# Altium footprint library SD87340-28 TWO SIDE.PcbLib: 1 footprints
Each footprint in its own frame and in the unit in brackets; x right, y up, seen from the top. Pads: shape width x height; smd on the part's side, far side on the other; paste and mask are expansions set on the pad; w line width, h text height; cw(c..) or ccw(c..) is an arc to the next point about the centre after c.
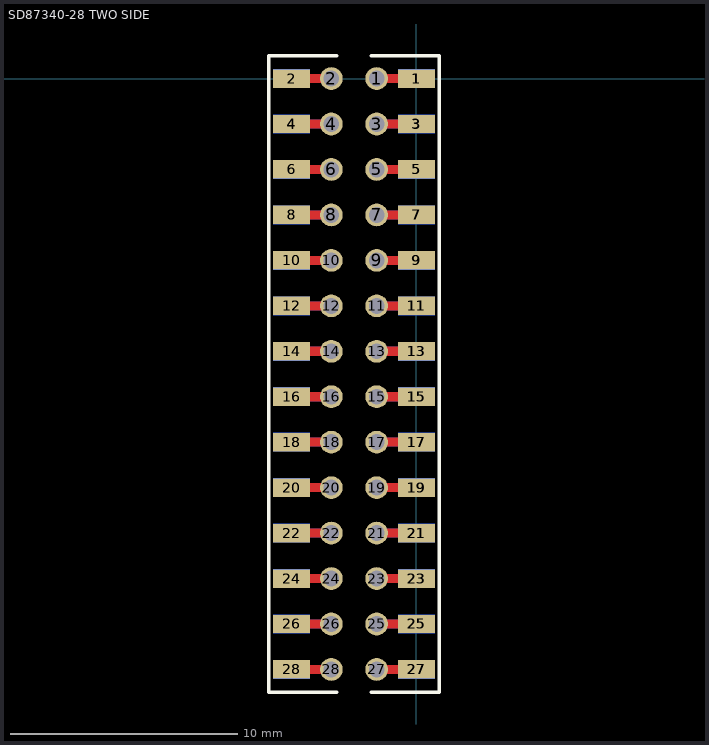
[diagram p0: the footprint, top view; thin cyan lines are the x and y axes]

## SD87340-28 TWO SIDE [mm]
pads (84):
  round 1 hole 0.7: 1(-1.75,0) 2(-3.75,0) 3(-1.75,-2) 4(-3.75,-2) 5(-1.75,-4) 6(-3.75,-4) 7(-1.75,-6) 8(-3.75,-6) 9(-1.75,-8) 10(-3.75,-8) 11(-1.75,-10) 12(-3.75,-10) 13(-1.75,-12) 14(-3.75,-12) 15(-1.75,-14) 16(-3.75,-14) 17(-1.75,-16) 18(-3.75,-16) 19(-1.75,-18) 20(-3.75,-18) 21(-1.75,-20) 22(-3.75,-20) 23(-1.75,-22) 24(-3.75,-22) 25(-1.75,-24) 26(-3.75,-24) 27(-1.75,-26) 28(-3.75,-26)
  rect 1.626x0.813 smd: 1(0,0) 2(-5.5,0) 3(0,-2) 4(-5.5,-2) 5(0,-4) 6(-5.5,-4) 7(0,-6) 8(-5.5,-6) 9(0,-8) 10(-5.5,-8) 11(0,-10) 12(-5.5,-10) 13(0,-12) 14(-5.5,-12) 15(0,-14) 16(-5.5,-14) 17(0,-16) 18(-5.5,-16) 19(0,-18) 20(-5.5,-18) 21(0,-20) 22(-5.5,-20) 23(0,-22) 24(-5.5,-22) 25(0,-24) 26(-5.5,-24) 27(0,-26) 28(-5.5,-26)
  rect 1.626x0.813 smd far side: 1(0,0) 2(-5.5,0) 3(0,-2) 4(-5.5,-2) 5(0,-4) 6(-5.5,-4) 7(0,-6) 8(-5.5,-6) 9(0,-8) 10(-5.5,-8) 11(0,-10) 12(-5.5,-10) 13(0,-12) 14(-5.5,-12) 15(0,-14) 16(-5.5,-14) 17(0,-16) 18(-5.5,-16) 19(0,-18) 20(-5.5,-18) 21(0,-20) 22(-5.5,-20) 23(0,-22) 24(-5.5,-22) 25(0,-24) 26(-5.5,-24) 27(0,-26) 28(-5.5,-26)
Top Layer:
  lines w0.4: -5.5,-26 -3.75,-26 ; -5.5,-24 -3.75,-24 ; -5.5,-22 -3.75,-22 ; -5.5,-20 -3.75,-20 ; -5.5,-18 -3.75,-18 ; -5.5,-16 -3.75,-16 ; -5.5,-14 -3.75,-14 ; -5.5,-12 -3.75,-12 ; -5.5,-10 -3.75,-10 ; -5.5,-8 -3.75,-8 ; -5.5,-6 -3.75,-6 ; -5.5,-4 -3.75,-4 ; -5.5,-2 -3.75,-2 ; -5.5,0 -3.75,0 ; -1.75,-26 0,-26 ; -1.75,-24 0,-24 ; -1.75,-22 0,-22 ; -1.75,-20 0,-20 ; -1.75,-18 0,-18 ; -1.75,-16 0,-16 ; -1.75,-14 0,-14 ; -1.75,-12 0,-12 ; -1.75,-10 0,-10 ; -1.75,-8 0,-8 ; -1.75,-6 0,-6 ; -1.75,-4 0,-4 ; -1.75,-2 0,-2 ; -1.75,0 0,0
Bottom Layer:
  lines w0.4: -5.5,-26 -3.75,-26 ; -5.5,-24 -3.75,-24 ; -5.5,-22 -3.75,-22 ; -5.5,-20 -3.75,-20 ; -5.5,-18 -3.75,-18 ; -5.5,-16 -3.75,-16 ; -5.5,-14 -3.75,-14 ; -5.5,-12 -3.75,-12 ; -5.5,-10 -3.75,-10 ; -5.5,-8 -3.75,-8 ; -5.5,-6 -3.75,-6 ; -5.5,-4 -3.75,-4 ; -5.5,-2 -3.75,-2 ; -5.5,0 -3.75,0 ; -1.75,-26 0,-26 ; -1.75,-24 0,-24 ; -1.75,-22 0,-22 ; -1.75,-20 0,-20 ; -1.75,-18 0,-18 ; -1.75,-16 0,-16 ; -1.75,-14 0,-14 ; -1.75,-12 0,-12 ; -1.75,-10 0,-10 ; -1.75,-8 0,-8 ; -1.75,-6 0,-6 ; -1.75,-4 0,-4 ; -1.75,-2 0,-2 ; -1.75,0 0,0
Top Overlay:
  lines w0.152: -6.5,-11 -6.5,1 -3.5,1 ; -6.5,-7 -6.5,-27 -3.5,-27 ; -2,-27 1,-27 1,-7 ; -2,1 1,1 1,-11
Top Solder:
  region: -0.9,0.2 -1.2,0.2 -1.2,-0.2 -0.9,-0.2
  region: -0.9,-1.8 -1.2,-1.8 -1.2,-2.2 -0.9,-2.2
  region: -0.9,-3.8 -1.2,-3.8 -1.2,-4.2 -0.9,-4.2
  region: -0.9,-5.8 -1.2,-5.8 -1.2,-6.2 -0.9,-6.2
  region: -0.9,-7.8 -1.2,-7.8 -1.2,-8.2 -0.9,-8.2
  region: -0.9,-9.8 -1.2,-9.8 -1.2,-10.2 -0.9,-10.2
  region: -0.9,-11.8 -1.2,-11.8 -1.2,-12.2 -0.9,-12.2
  region: -0.9,-13.8 -1.2,-13.8 -1.2,-14.2 -0.9,-14.2
  region: -0.9,-15.8 -1.2,-15.8 -1.2,-16.2 -0.9,-16.2
  region: -0.9,-17.8 -1.2,-17.8 -1.2,-18.2 -0.9,-18.2
  region: -0.9,-19.8 -1.2,-19.8 -1.2,-20.2 -0.9,-20.2
  region: -0.9,-21.8 -1.2,-21.8 -1.2,-22.2 -0.9,-22.2
  region: -0.9,-23.8 -1.2,-23.8 -1.2,-24.2 -0.9,-24.2
  region: -0.9,-25.8 -1.2,-25.8 -1.2,-26.2 -0.9,-26.2
  rectangle: -4.6,-26.2 -4.3,-25.8
  rectangle: -4.6,-24.2 -4.3,-23.8
  rectangle: -4.6,-22.2 -4.3,-21.8
  rectangle: -4.6,-20.2 -4.3,-19.8
  rectangle: -4.6,-18.2 -4.3,-17.8
  rectangle: -4.6,-16.2 -4.3,-15.8
  rectangle: -4.6,-14.2 -4.3,-13.8
  rectangle: -4.6,-12.2 -4.3,-11.8
  rectangle: -4.6,-10.2 -4.3,-9.8
  rectangle: -4.6,-8.2 -4.3,-7.8
  rectangle: -4.6,-6.2 -4.3,-5.8
  rectangle: -4.6,-4.2 -4.3,-3.8
  rectangle: -4.6,-2.2 -4.3,-1.8
  rectangle: -4.6,-0.2 -4.3,0.2
Bottom Solder:
  region: -0.9,-25.8 -1.2,-25.8 -1.2,-26.2 -0.9,-26.2
  region: -0.9,-23.8 -1.2,-23.8 -1.2,-24.2 -0.9,-24.2
  region: -0.9,-21.8 -1.2,-21.8 -1.2,-22.2 -0.9,-22.2
  region: -0.9,-19.8 -1.2,-19.8 -1.2,-20.2 -0.9,-20.2
  region: -0.9,-17.8 -1.2,-17.8 -1.2,-18.2 -0.9,-18.2
  region: -0.9,-15.8 -1.2,-15.8 -1.2,-16.2 -0.9,-16.2
  region: -0.9,-13.8 -1.2,-13.8 -1.2,-14.2 -0.9,-14.2
  region: -0.9,-11.8 -1.2,-11.8 -1.2,-12.2 -0.9,-12.2
  region: -0.9,-9.8 -1.2,-9.8 -1.2,-10.2 -0.9,-10.2
  region: -0.9,-7.8 -1.2,-7.8 -1.2,-8.2 -0.9,-8.2
  region: -0.9,-5.8 -1.2,-5.8 -1.2,-6.2 -0.9,-6.2
  region: -0.9,-3.8 -1.2,-3.8 -1.2,-4.2 -0.9,-4.2
  region: -0.9,-1.8 -1.2,-1.8 -1.2,-2.2 -0.9,-2.2
  region: -0.9,0.2 -1.2,0.2 -1.2,-0.2 -0.9,-0.2
  rectangle: -4.6,-26.2 -4.3,-25.8
  rectangle: -4.6,-24.2 -4.3,-23.8
  rectangle: -4.6,-22.2 -4.3,-21.8
  rectangle: -4.6,-20.2 -4.3,-19.8
  rectangle: -4.6,-18.2 -4.3,-17.8
  rectangle: -4.6,-16.2 -4.3,-15.8
  rectangle: -4.6,-14.2 -4.3,-13.8
  rectangle: -4.6,-12.2 -4.3,-11.8
  rectangle: -4.6,-10.2 -4.3,-9.8
  rectangle: -4.6,-8.2 -4.3,-7.8
  rectangle: -4.6,-6.2 -4.3,-5.8
  rectangle: -4.6,-4.2 -4.3,-3.8
  rectangle: -4.6,-2.2 -4.3,-1.8
  rectangle: -4.6,-0.2 -4.3,0.2
3D body "SD87340-28.STEP": height 2.1, standoff 0, extent -5.75,-27 0.25,1